# Altium footprint library CardSockets.PcbLib: 5 footprints
Each footprint in its own frame and in the unit in brackets; x right, y up, seen from the top. Pads: shape width x height; smd on the part's side, far side on the other; paste and mask are expansions set on the pad; w line width, h text height; cw(c..) or ccw(c..) is an arc to the next point about the centre after c.
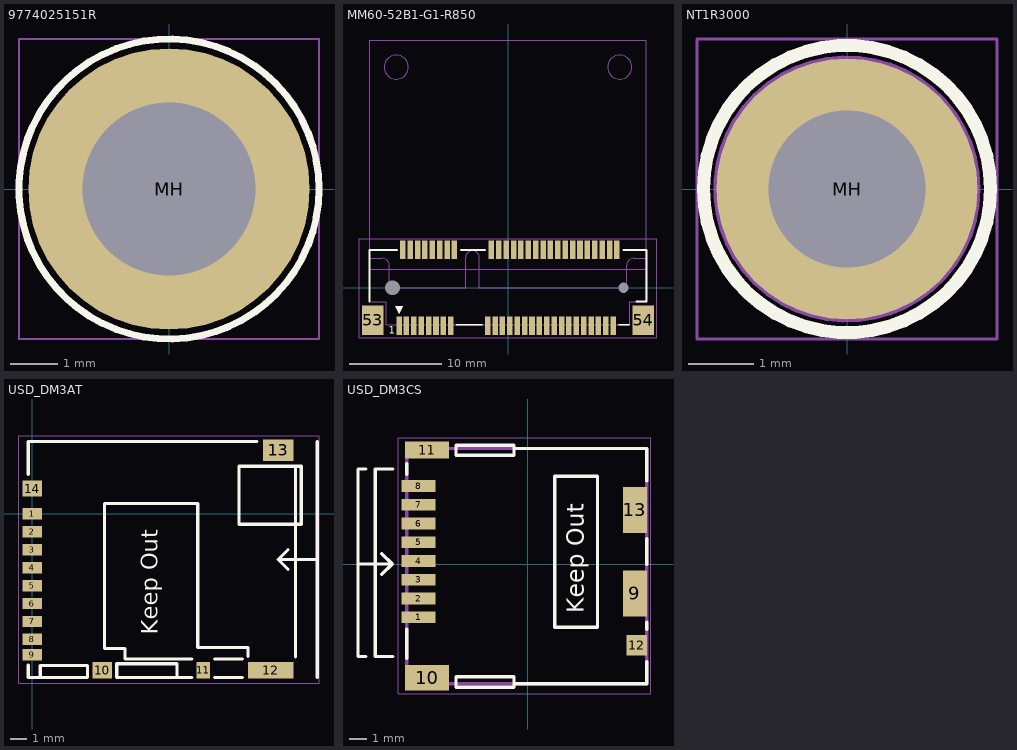
[diagram p0: the footprints below, top view; thin cyan lines are the x and y axes]

## 9774025151R [mm] "Round Standoff Threaded M2.5x0.45 Steel 0.098\" (2.50mm)"
pads (1):
  round 6 hole 3.7: MH(0,0)
Top Overlay:
  circle w0.15: c0,0 r3.2
Top Paste:
  lines w1.15: -2.279,-0.829 ccw(c0,0) -0.829,-2.279 ; -2.279,0.829 cw(c0,0) -0.829,2.279 ; 0.829,-2.279 ccw(c0,0) 2.279,-0.829 ; 0.829,2.279 cw(c0,0) 2.279,0.829
Mechanical 13:
  circle w0.1: c0,0 r1.25
  circle w0.1: c0,0 r2.55
Mechanical 15:
  lines w0.05: -3.2,-3.2 3.2,-3.2 3.2,3.2 -3.2,3.2 -3.2,-3.2
  text ".Designator" at -2.9,-0.4 h1.5
3D body "STEP-9774025151R-rev1.stp": height 2.5, standoff -1.4, extent -2.55,-2.547 2.55,2.547

## MM60-52B1-G1-R850 [mm] "CONN 52POS MINI EXPRESS CARD SMD"
pads (56):
  rect 0.6x2 smd mask+0.05: 1(-11.8,-4.1) 2(-11.4,4.1) 3(-11,-4.1) 4(-10.6,4.1) 5(-10.2,-4.1) 6(-9.8,4.1) 7(-9.4,-4.1) 8(-9,4.1) 9(-8.6,-4.1) 10(-8.2,4.1) 11(-7.8,-4.1) 12(-7.4,4.1) 13(-7,-4.1) 14(-6.6,4.1) 15(-6.2,-4.1) 16(-5.8,4.1) 17(-2.2,-4.1) 18(-1.8,4.1) 19(-1.4,-4.1) 20(-1,4.1) 21(-0.6,-4.1) 22(-0.2,4.1) 23(0.2,-4.1) 24(0.6,4.1) 25(1,-4.1) 26(1.4,4.1) 27(1.8,-4.1) 28(2.2,4.1) 29(2.6,-4.1) 30(3,4.1) 31(3.4,-4.1) 32(3.8,4.1) 33(4.2,-4.1) 34(4.6,4.1) 35(5,-4.1) 36(5.4,4.1) 37(5.8,-4.1) 38(6.2,4.1) 39(6.6,-4.1) 40(7,4.1) 41(7.4,-4.1) 42(7.8,4.1) 43(8.2,-4.1) 44(8.6,4.1) 45(9,-4.1) 46(9.4,4.1) 47(9.8,-4.1) 48(10.2,4.1) 49(10.6,-4.1) 50(11,4.1) 51(11.4,-4.1) 52(11.8,4.1)
  rect 2.3x3.2 smd: 53(-14.65,-3.5) 54(14.65,-3.5)
  rrect70% 0x0 hole 1.6: 55(-12.5,0)
  rrect70% 0x0 hole 1.1: 56(12.5,0)
Top Overlay:
  region: -11.8,-2.8 -11.4,-2 -12.2,-2
  lines w0.2: -15,-1.5 -15,4.1 -12,4.1 ; -5.6,-4 -2.8,-4 ; -5.1,4.1 -2.5,4.1 ; 12,-4 13.1,-4 ; 12.5,4.1 15,4.1 15,-1.5 13.9,-1.5
  text "1" at -12.9,-5 h0.8
Mechanical 13:
  circle w0.1: c-12.1,23.9 r1.3
  circle w0.1: c12.1,23.9 r1.3
  lines w0.1: -15,2 15,2 ; -15,4.1 -15,-1.5 -13.2,-1.5 -13.2,-4 13.2,-4 13.2,-1.5 15,-1.5 15,4.1 ; -15,3.2 -15,26.8 15,26.8 15,3.2 13.65,3.2 ccw(c13.65,2.4) 12.85,2.4 12.85,0 -3.1,0 -3.1,3.25 ccw(c-3.85,3.25) -4.6,3.25 -4.6,0 -12.85,0 -12.85,2.4 ccw(c-13.65,2.4) -13.65,3.2 -15,3.2
Mechanical 15:
  lines w0.05: -16.1,-5.4 16.1,-5.4 16.1,5.3 -16.1,5.3 -16.1,-5.4
  text ".Designator" at -4.6,0 h2
3D body "K3D-MM60-52B1-G1-V1_JAE_Proprietary.step": height 4, standoff -0.8, extent -14.95,-4.6 14.95,5

## NT1R3000 [mm] "STANDOFF FOR MM60-52B1-B1 3.9MM"
pads (1):
  round 4 hole 2.4: MH(0,0)
Top Overlay:
  circle w0.2: c0,0 r2.202
Mechanical 13:
  circle w0.1: c0,0 r1.15
  circle w0.1: c0,0 r2
Mechanical 15:
  lines w0.05: -2.3,-2.3 2.3,-2.3 2.3,2.3 -2.3,2.3 -2.3,-2.3
  text ".Designator" at -2.1,-0.4 h1.5
3D body "User Library-temp.step": height 1.55, standoff -0.6, extent -2,-2 2,2

## USD_DM3AT [mm]
pads (14):
  rect 1.2x0.7 smd: 1(0,0) 2(0,-1.1) 3(0,-2.2) 4(0,-3.3) 5(0,-4.4) 6(0,-5.5) 7(0,-6.6)
  rect 1.2x0.7 smd mask+0.07: 8(0,-7.7) 9(0,-8.65)
  rect 1.2x1 smd: 10(4.3,-9.6) 14(0,1.55)
  rect 0.8x1 smd: 11(10.5,-9.6)
  rect 2.8x1 smd: 12(14.65,-9.6)
  rect 1.9x1.3 smd: 13(15.1,3.9)
Top Overlay:
  lines w0.2: -0.231,-9.271 -0.231,-10.033 3.4,-10.033 ; -0.231,2.413 -0.231,4.445 13.8,4.445 ; 0.5,-10.033 0.5,-9.3 3.4,-9.3 3.4,-10.004 ; 8.89,-10.033 8.89,-9.21 8.89,-9.2 5.2,-9.2 5.2,-10.033 9.8,-10.033 ; 9.8,-8.9 5.7,-8.9 5.7,-8.255 4.445,-8.255 4.445,0.635 10.16,0.635 10.16,-8.2 13.245,-8.2 13.245,-8.755 ; 11.2,-10.033 12.9,-10.033 ; 11.2,-8.9 12.9,-8.9 ; 15.7,-3.4 15.1,-2.8 ; 15.7,-2.2 15.1,-2.8 ; 16.152,-8.763 16.152,2.921 ; 17.45,-2.8 15.1,-2.8 ; 17.495,-10.033 17.495,4.445 ; 12.7,-0.635 16.51,-0.635 16.51,2.921 12.7,2.921 12.7,-0.635
  text "Keep Out" at 7.7,-7.4 h1
Mechanical 15:
  lines w0.05: -0.8,-10.4 17.6,-10.4 17.6,4.8 -0.8,4.8 -0.8,-10.4
  text ".Designator" at 3.8,-3.1 h1.5
3D body "DM3AT-SF-PEJM5.stp": height 1.68, standoff 0, extent -0.1,-9.7 16.05,4.15

## USD_DM3CS [mm]
pads (13):
  rect 2x0.7 smd: 1(-6.4,-3.125) 2(-6.4,-2.025) 3(-6.4,-0.925) 4(-6.4,0.175) 5(-6.4,1.275) 6(-6.4,2.375) 7(-6.4,3.475) 8(-6.4,4.575)
  rect 1.4x2.7 smd: 9(6.3,-1.725) 13(6.3,3.175)
  rect 2.6x1.5 smd: 10(-5.9,-6.675)
  rect 2.6x1 smd: 11(-5.9,6.675)
  rect 1.2x1.2 smd: 12(6.4,-4.775)
Top Overlay:
  lines w0.2: -9.95,0 -7.95,0 ; -9.5,-5.425 -9.95,-5.425 -9.95,5.575 -9.5,5.575 ; -8.55,-0.6 -7.95,0 ; -8.55,0.6 -7.95,0 ; -7.9,-5.425 -8.95,-5.425 -8.95,5.575 -7.9,5.575 ; -7.1,-5.525 -7.1,-3.825 ; -7.1,5.275 -7.1,5.875 ; -0.8,-7.025 7,-7.025 7,-5.725 ; -0.8,6.775 7,6.775 7,4.875 ; 7,-3.825 7,-3.425 ; 7,-0.025 7,1.475 ; -4.2,-7.225 -0.8,-7.225 -0.8,-6.625 -4.2,-6.625 -4.2,-7.225 ; -4.2,6.375 -4.2,6.975 -0.8,6.975 -0.8,6.375 -4.2,6.375 ; 1.6,-3.7 4.1,-3.7 4.1,5.15 1.6,5.15 1.6,-3.7
  text "Keep Out" at 3.3,-2.9 h1
Mechanical 15:
  lines w0.05: -7.6,-7.6 7.239,-7.6 7.239,7.4 -7.6,7.4 -7.6,-7.6
  text ".Designator" at -3.3,0 h1.5
Mechanical 16:
  lines w0.2: -7.1,-7.025 7,-7.025 7,6.775 -7.1,6.775 -7.1,-7.025
3D body "DM3CS-SF.stp": height 1.98, standoff 0.05, extent -7.1,-7.025 7,6.775